# Altium schematic symbol library 原理图库.SCHLIB: 41 symbols
Pins are listed as number, name and electrical type; pins without a type are passive.

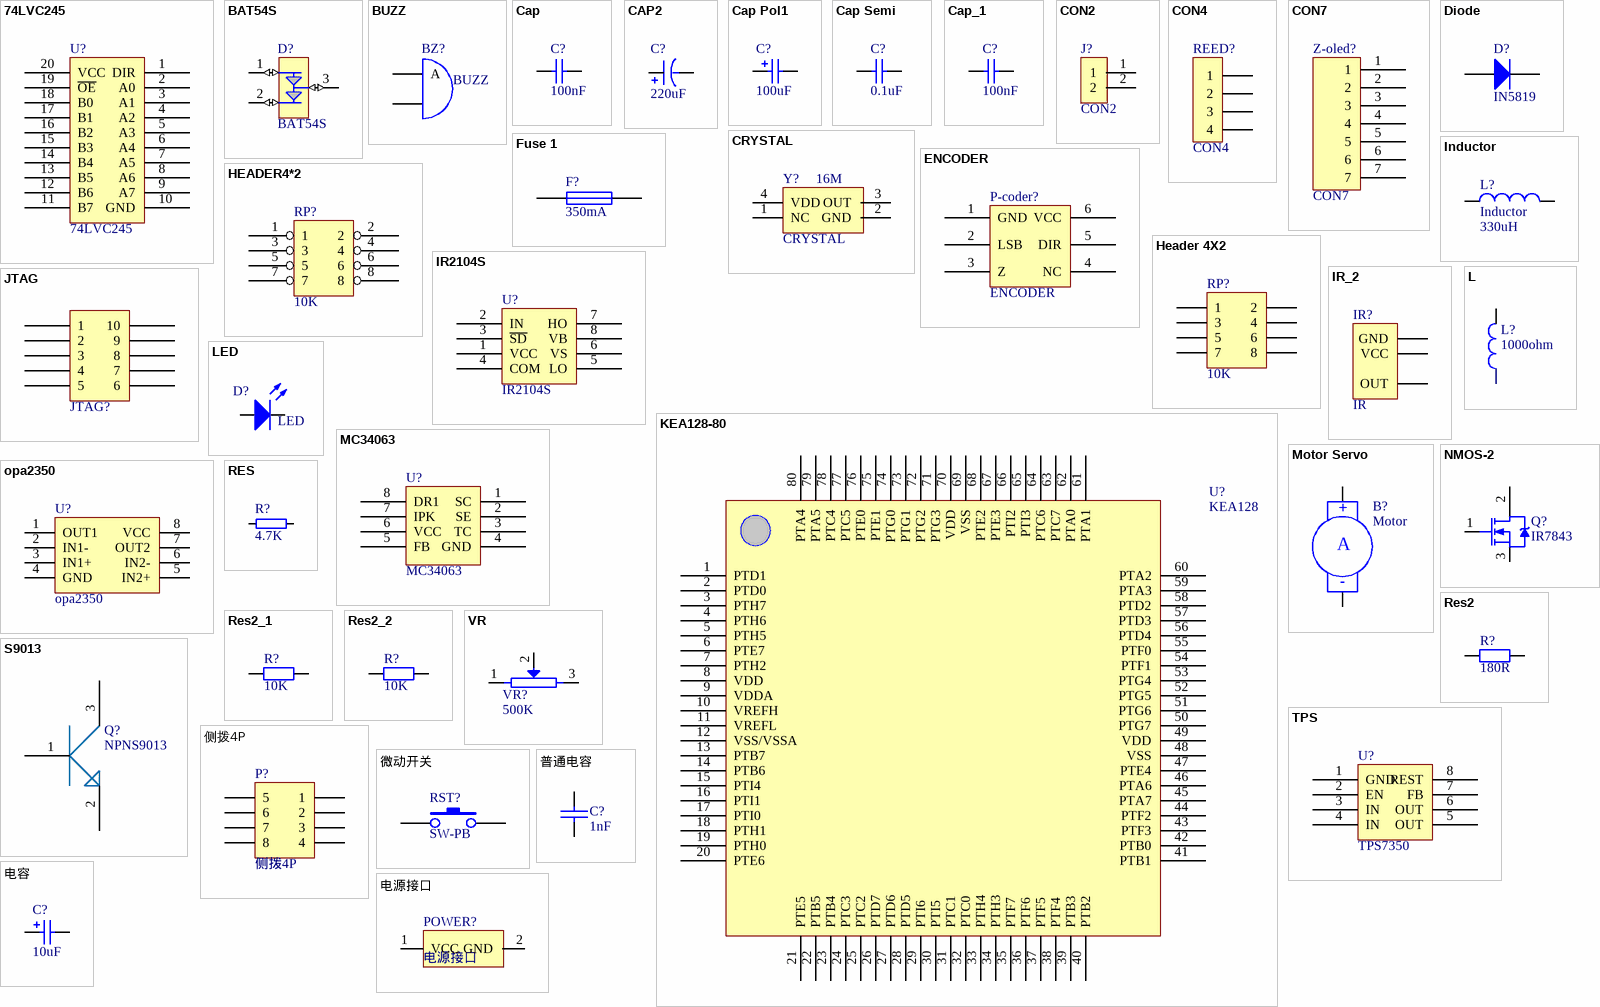
[diagram p0: symbols 74LVC245 to 电源接口]

## 74LVC245
designator U?
footprint 74LVC245 TSSOP
pins: 1 DIR, 2 A0, 3 A1, 4 A2, 5 A3, 6 A4, 7 A5, 8 A6, 9 A7, 10 GND, 11 B7, 12 B6, 13 B5, 14 B4, 15 B3, 16 B2, 17 B1, 18 B0, 19 ~{OE}, 20 VCC

## BAT54S
designator D?
小信号肖特基二极管,峰值反向电压30 V,0.2A
footprint SOT23 (stand)
pins: 1 (io), 2 (io), 3 (io)

## BUZZ
designator BZ?
footprint BUZZ
pins: 1 A, 2 B

## Cap
designator C?, comment 100nF
Capacitor
footprint 0603(1608)
pins: 1, 2

## CAP2
designator C?  (value not drawn)
电容带极性
footprint TAN-D7343
footprint 铝电解电容10*10.2
pins: 1, 2
text: 220uF

## Cap Pol1
designator C?  value 100uF  (hidden comment: Cap Pol1)
Polarized Capacitor (Radial); Published: 8-Jun-2000; LatestRevisionDate: 17-Jul-2002; LatestRevisionNote: Re-released for DXP Platform.; PackageReference: RB7.6-15; Publisher: Altium Limited; PackageDescription: Polarized Capacitor (Radial); 2 Leads
footprint RB7.6-15 (Polarized Capacitor (Radial); 2 Leads)
simulation model CAP (Capacitor)
signal-integrity model Cap Pol
footprint TAN-D7343
pins: 1, 2
1 alternate drawing of the same symbol

## Cap Semi
designator C?, comment 0.1uF
Capacitor (Semiconductor SIM Model); Value2: 10uF; Published: 8-Jun-2000; LatestRevisionDate: 17-Jul-2002; LatestRevisionNote: Re-released for DXP Platform.; PackageReference: C1206; Publisher: Altium Limited; value1: 0.1uF
footprint 0603(1608)
pins: 1, 2

## Cap_1
designator C?, comment 100nF
Capacitor; Published: 8-Jun-2000; LatestRevisionDate: 17-Jul-2002; LatestRevisionNote: Re-released for DXP Platform.; PackageReference: RAD-0.3; Publisher: Altium Limited; PackageDescription: Radial Cap, Thru-Hole; 2 Leads; 0.3 in Pin Spacing; Value: 100nF
footprint 0603(1608)
pins: 1, 2

## CON2
designator J?
footprint CON2
pins: 1, 2

## CON4
designator REED?
footprint CON4-1
pins: 1, 2, 3, 4

## CON7
designator Z-oled?
footprint CON7_OLED
pins: 1, 2, 3, 4, 5, 6, 7

## CRYSTAL
designator Y?
footprint LC-SMD-3225_4P
pins: 1 NC, 2 GND, 3 OUT, 4 VDD
text: 16M

## Diode
designator D?, comment IN5819
Default Diode; Published: 8-Jun-2000; LatestRevisionDate: 17-Jul-2002; LatestRevisionNote: Re-released for DXP Platform.; PackageVersion: Sep-1996; PackageReference: SMC; Publisher: Altium Limited; PackageDescription: DO-214-AB/SMC; 2 C-Bend Leads; Body 7.9 x 5.9 mm, inc. leads (LxW); Code_JEDEC: DO-214-AB
footprint LC-SOD-123
pins: 1 A, 2 K

## ENCODER
designator P-coder?
footprint ENCODER
pins: 1 GND, 2 LSB, 3 Z, 4 NC, 5 DIR, 6 VCC

## Fuse 1
designator F?, comment 350mA
Fuse; Published: 8-Jun-2000; LatestRevisionDate: 17-Jul-2002; LatestRevisionNote: Re-released for DXP Platform.; PackageReference: PIN-W2/E2.8; Publisher: Altium Limited
footprint FUSE-1206
pins: 1, 2

## HEADER4*2
designator RP?  (value not drawn)
footprint RA_8
pins: 1, 2, 3, 4, 5, 6, 7, 8
text: 10K

## Header 4X2
designator RP?, comment 10K
Header, 4-Pin, Dual row; LatestRevisionDate: 17-Jul-2002; LatestRevisionNote: Re-released for DXP Platform.; Publisher: Altium Limited
footprint RA_8
pins: 1, 2, 3, 4, 5, 6, 7, 8

## Inductor
designator L?  value 330uH
Code_IEC: 1005; Published: 8-Jun-2000; LatestRevisionDate: 29-May-2009; LatestRevisionNote: IPC-7351 Footprint Added.; PackageReference: 0402-A; Publisher: Altium Limited; PackageDescription: Chip Inductor; Code_JEITA: 0402
footprint 贴片电感7*7*4
pins: 1, 2

## IR2104S
designator U?
footprint IR2104 (SOIC, 8-Leads, Body 5.0x4.0mm (max), Pitch 1.27mm, IPC Medium Density)
pins: 1 VCC, 2 IN, 3 ~{SD}, 4 COM, 5 LO, 6 VS, 7 HO, 8 VB

## IR_2
designator IR?, comment IR
footprint IR2 (大头红外封装)
pins: 1 GND, 2 VCC, 3 OUT

## JTAG
designator JTAG?  (value not drawn)
footprint IDC5X2
pins: 1, 2, 3, 4, 5, 6, 7, 8, 9, 10

## KEA128-80
designator U?, comment KEA128
footprint LQFP-80M (LQFP, 80-Leads, Body 14.00x14.00mm, Pitch 0.65mm, IPC Low Den)
pins: 1 PTD1, 2 PTD0, 3 PTH7, 4 PTH6, 5 PTH5, 6 PTE7, 7 PTH2, 8 VDD, 9 VDDA, 10 VREFH, 11 VREFL, 12 VSS/VSSA, 13 PTB7, 14 PTB6, 15 PTI4, 16 PTI1, 17 PTI0, 18 PTH1, 19 PTH0, 20 PTE6, 21 PTE5, 22 PTB5, 23 PTB4, 24 PTC3, 25 PTC2, 26 PTD7, 27 PTD6, 28 PTD5, 29 PTI6, 30 PTI5, 31 PTC1, 32 PTC0, 33 PTH4, 34 PTH3, 35 PTF7, 36 PTF6, 37 PTF5, 38 PTF4, 39 PTB3, 40 PTB2, 41 PTB1, 42 PTB0, 43 PTF3, 44 PTF2, 45 PTA7, 46 PTA6, 47 PTE4, 48 VSS, 49 VDD, 50 PTG7, 51 PTG6, 52 PTG5, 53 PTG4, 54 PTF1, 55 PTF0, 56 PTD4, 57 PTD3, 58 PTD2, 59 PTA3, 60 PTA2, 61 PTA1, 62 PTA0, 63 PTC7, 64 PTC6, 65 PTI3, 66 PTI2, 67 PTE3, 68 PTE2, 69 VSS, 70 VDD, 71 PTG3, 72 PTG2, 73 PTG1, 74 PTG0, 75 PTE1, 76 PTE0, 77 PTC5, 78 PTC4, 79 PTA5, 80 PTA4

## L
designator L?, comment 1000ohm
footprint 0805 - duplicate (表贴式封装)
pins: 1, 2

## LED
designator D?
footprint 0603LED
pins: 1, 2

## MC34063
designator U?
footprint MC34063
pins: 1 SC, 2 SE, 3 TC, 4 GND, 5 FB, 6 VCC, 7 IPK, 8 DR1

## Motor Servo
designator B?, comment Motor
Servo Motor
footprint KF301-2P
pins: 1 +, 2 -
text: A

## NMOS-2
designator Q?, comment IR7843
N-Channel Power MOSFET; Note: Pin 2 is electrically connected to pin 4.; Published: 8-Jun-2000; LatestRevisionDate: 17-Jul-2002; LatestRevisionNote: Re-released for DXP Platform.; DatasheetVersion: PD-9.814; PackageVersion: Feb-1997; PackageReference: TO-220AB; Publisher: Altium Limited; PackageDescription: TO, Thru-Hole, Vertical, Heatsink Mounted; 3 In-Line Leads; Pitch 2.54 mm; ComponentLink1Description: Manufacturer Link; ComponentLink1URL: http://www.irf.com/
footprint LR7843
pins: 1 G, 2 D, 3 S

## opa2350
designator U?
放大器
footprint SO8 (150mil)
pins: 1 OUT1, 2 IN1-, 3 IN1+, 4 GND, 5 IN2+, 6 IN2-, 7 OUT2, 8 VCC

## RES
designator R?, comment 4.7K
footprint 0603(1608)
pins: 1, 2

## Res2
designator R?, comment 180R
Resistor; Published: 8-Jun-2000; LatestRevisionDate: 17-Jul-2002; LatestRevisionNote: Re-released for DXP Platform.; PackageReference: AXIAL-0.4; Publisher: Altium Limited; PackageDescription: Axial Device, Thru-Hole; 2 Leads; 0.4 in Pin Spacing; Value: 180R
footprint 0603(1608)
pins: 1, 2

## Res2_1
designator R?, comment value 10K  (hidden comment: 1K)
Resistor; Published: 8-Jun-2000; LatestRevisionDate: 17-Jul-2002; LatestRevisionNote: Re-released for DXP Platform.; PackageReference: AXIAL-0.4; Publisher: Altium Limited; PackageDescription: Axial Device, Thru-Hole; 2 Leads; 0.4 in Pin Spacing
footprint AXIAL-0.4 (Axial Device, Thru-Hole; 2 Leads; 0.4 in Pin Spacing)
simulation model RESISTOR (Resistor)
signal-integrity model Res
footprint 0603(1608)
pins: 1, 2

## Res2_2
designator R?, comment value 10K  (hidden comment: 1K)
Resistor; Published: 8-Jun-2000; LatestRevisionDate: 17-Jul-2002; LatestRevisionNote: Re-released for DXP Platform.; PackageReference: AXIAL-0.4; Publisher: Altium Limited; PackageDescription: Axial Device, Thru-Hole; 2 Leads; 0.4 in Pin Spacing
footprint 0603(1608)
pins: 1, 2

## S9013
designator Q?, comment NPNS9013
footprint LC-SOT-23(SOT-23-3)
pins: 1, 2, 3

## TPS
designator U?, comment TPS7350
footprint SOIC-8
pins: 1 GND, 2 EN, 3 IN, 4 IN, 5 OUT, 6 OUT, 7 FB, 8 REST

## VR
designator VR?, comment 500K
3端可调电阻
footprint 电位器 (Connector; Header; 3 Position)
pins: 1, 2, 3

## 侧拨4P
designator P?
footprint 侧拨4P
pins: 1, 2, 3, 4, 5, 6, 7, 8

## 微动开关
designator RST?, comment SW-PB
footprint SMT_BUTTON
pins: 1, 2

## 普通电容
designator C?, comment 1nF
Capacitor
footprint 0603(1608)
pins: 1, 2

## 电容
designator C?, comment 10uF
footprint 3216
footprint 0603(1608)
pins: 1, 2

## 电源接口
designator POWER?
2P
footprint KF301-2P
pins: 1 VCC, 2 GND

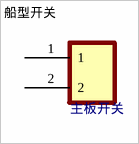
[diagram p1: symbol 船型开关]

## 船型开关
designator 主板开关?, comment 主板开关
footprint 船型开关-small
pins: 1, 2